# EAGLE library part BTS50901 (library infineon_tle_power)
IC PWR SW HI-SIDE
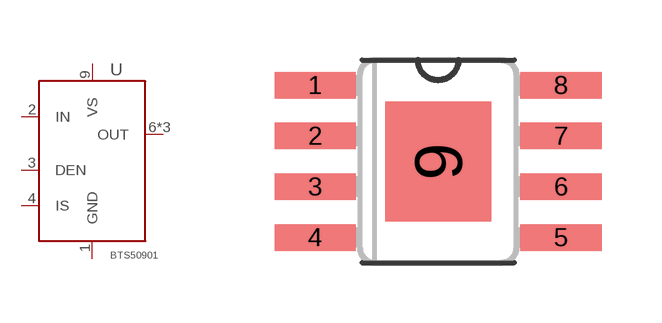
[diagram p1: symbol with the pads of SOIC8-EP(PG-DSO-8-EP); footprint SOIC8-EP(PG-DSO-8-EP)]

Designator prefix U

## BTS50901 (DIGIKEY: BTS50901EJAXUMA1CT-ND; MFR: Infineon Technologies; MPN: BTS50901EJAXUMA1; P1I: o)  [SOIC8-EP(PG-DSO-8-EP)]
1  GND
2  IN
3  DEN
4  IS
6  OUT
7  OUT
8  OUT
9  VS

## Footprint SOIC8-EP(PG-DSO-8-EP) (pad centres in mm)
smd 2.032 x 0.66: 1 -3.073,1.905; 2 -3.073,0.635; 3 -3.073,-0.635; 4 -3.073,-1.905; 5 3.073,-1.905; 6 3.073,-0.635; 7 3.073,0.635; 8 3.073,1.905
smd 2.65 x 3: 9 0,0